# Altium schematic symbol library democritus-robot.SchLib: 39 symbols
Pins are listed as number, name and electrical type; pins without a type are passive.

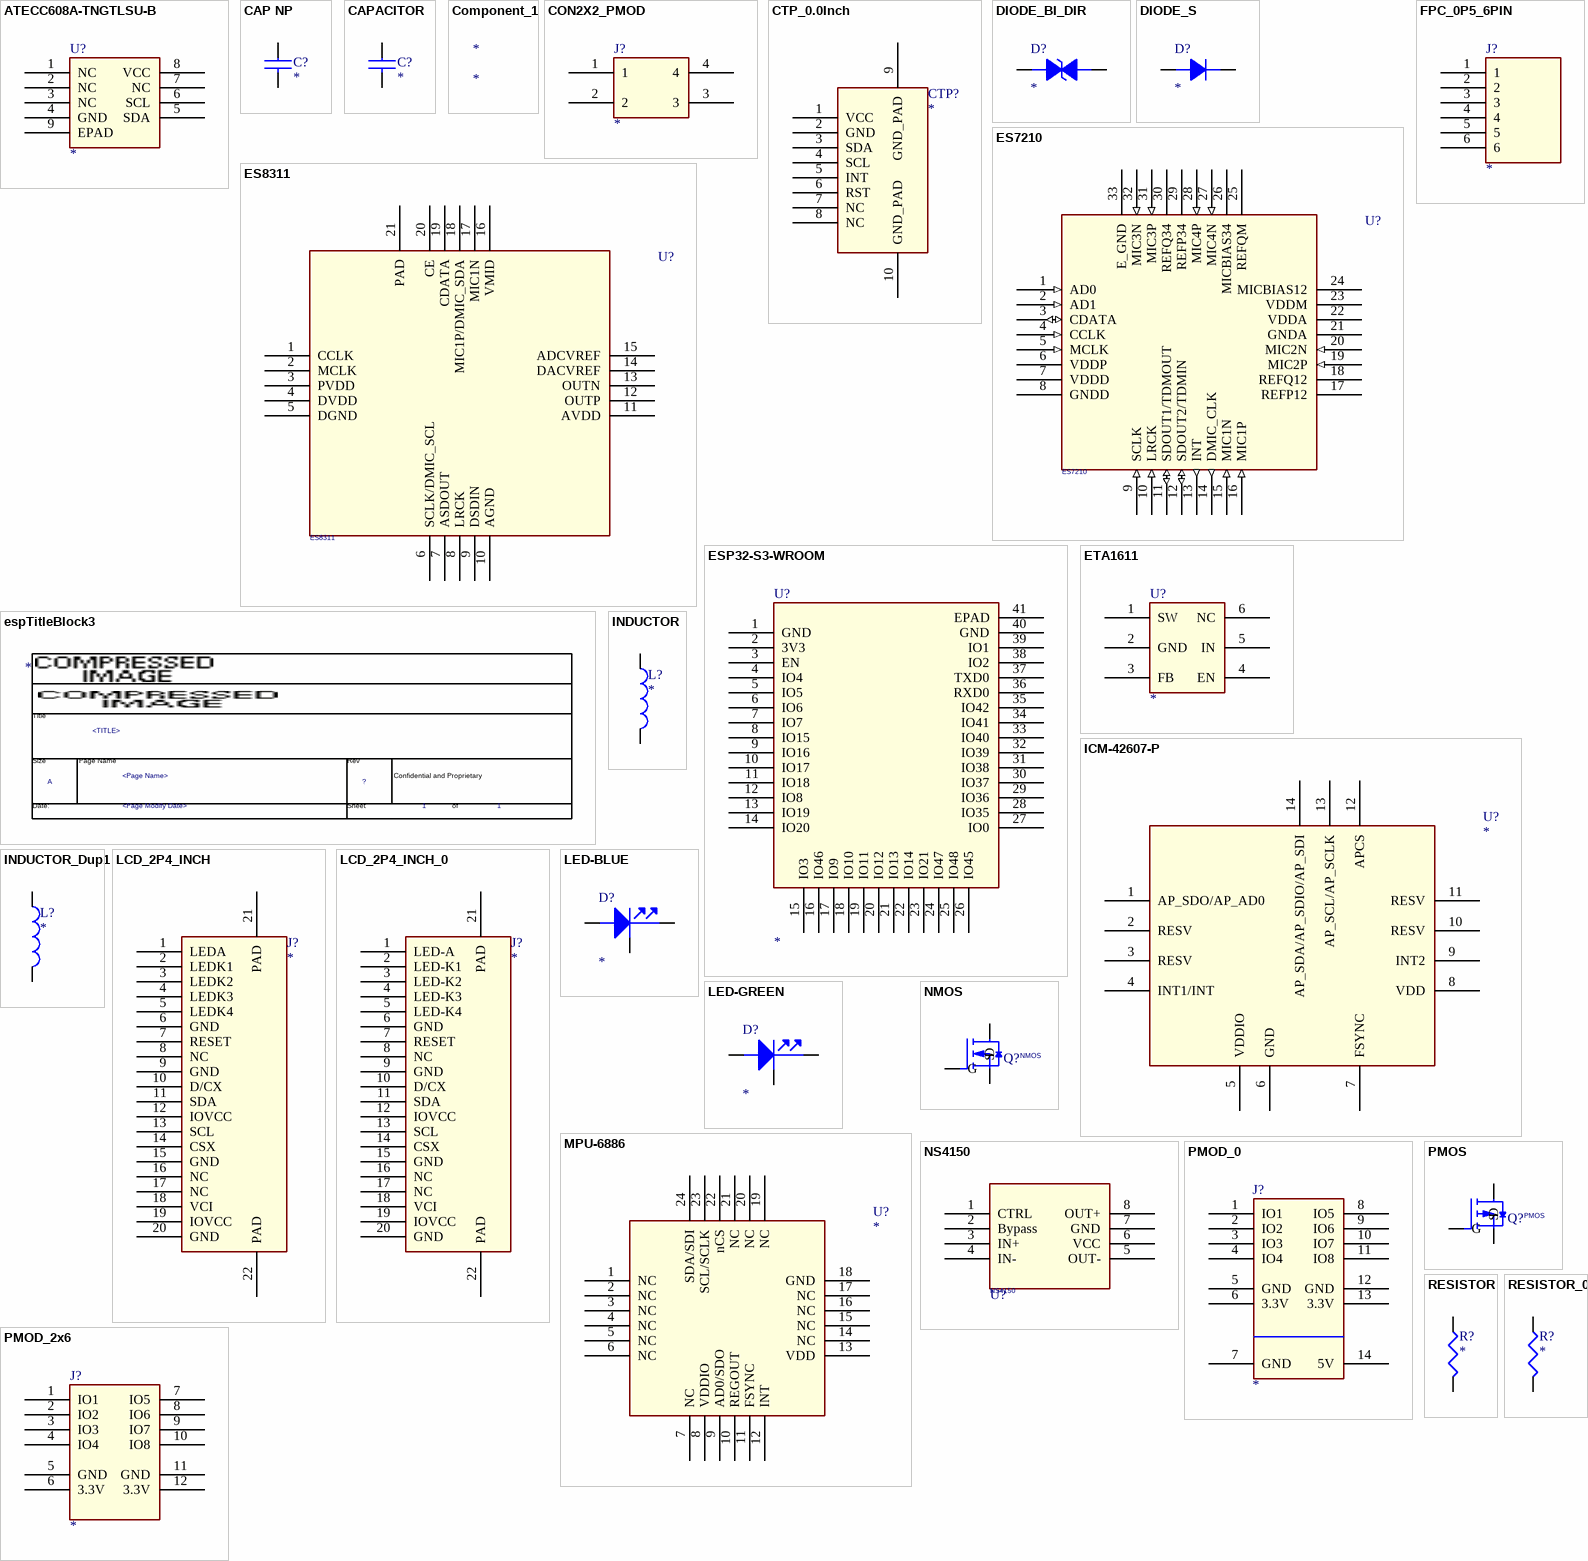
[diagram p0: symbols ATECC608A-TNGTLSU-B to RESISTOR_0]

## ATECC608A-TNGTLSU-B
designator U?
footprint DFN8_0P5_2P4
pins: 1 NC, 2 NC, 3 NC, 4 GND, 5 SDA, 6 SCL, 7 NC, 8 VCC, 9 EPAD

## CAP NP
designator C?
pins: 1, 2

## CAPACITOR
designator C?
pins: 1, 2

## Component_1
designator *

## CON2X2_PMOD
designator J?
footprint CON2X2_PMOD
pins: 1, 2, 3, 4

## CTP_0.0Inch
designator CTP?
footprint FFC_8P_0P5
pins: 1 VCC, 2 GND, 3 SDA, 4 SCL, 5 INT, 6 RST, 7 NC, 8 NC, 9 GND_PAD, 10 GND_PAD

## DIODE_BI_DIR
designator D?
pins: 1, 2

## DIODE_S
designator D?
pins: 1 A, 2 K

## ES7210
designator U?
pins: 1 AD0 (in), 2 AD1 (in), 3 CDATA (io), 4 CCLK (in), 5 MCLK (in), 6 VDDP (power), 7 VDDD (power), 8 GNDD (power), 9 SCLK (in), 10 LRCK (in), 11 SDOUT1/TDMOUT (io), 12 SDOUT2/TDMIN (io), 13 INT (out), 14 DMIC_CLK (out), 15 MIC1N (in), 16 MIC1P (in), 17 REFP12 (power), 18 REFQ12 (power), 19 MIC2P (in), 20 MIC2N (in), 21 GNDA (power), 22 VDDA (power), 23 VDDM (power), 24 MICBIAS12 (power), 25 REFQM (power), 26 MICBIAS34 (power), 27 MIC4N (in), 28 MIC4P (in), 29 REFP34 (power), 30 REFQ34 (power), 31 MIC3P (in), 32 MIC3N (in), 33 E_GND (power)

## ES8311
designator U?
pins: 1 CCLK, 2 MCLK, 3 PVDD, 4 DVDD, 5 DGND, 6 SCLK/DMIC_SCL, 7 ASDOUT, 8 LRCK, 9 DSDIN, 10 AGND, 11 AVDD, 12 OUTP, 13 OUTN, 14 DACVREF, 15 ADCVREF, 16 VMID, 17 MIC1N, 18 MIC1P/DMIC_SDA, 19 CDATA, 20 CE, 21 PAD

## ESP32-S3-WROOM
designator U?
pins: 1 GND (power), 2 3V3 (power), 3 EN, 4 IO4, 5 IO5, 6 IO6, 7 IO7, 8 IO15, 9 IO16, 10 IO17, 11 IO18, 12 IO8, 13 IO19, 14 IO20, 15 IO3, 16 IO46, 17 IO9, 18 IO10, 19 IO11, 20 IO12, 21 IO13, 22 IO14, 23 IO21, 24 IO47, 25 IO48, 26 IO45, 27 IO0, 28 IO35, 29 IO36, 30 IO37, 31 IO38, 32 IO39, 33 IO40, 34 IO41, 35 IO42, 36 RXD0, 37 TXD0, 38 IO2, 39 IO1, 40 GND (power), 41 EPAD (power)

## espTitleBlock3
designator *  Page Modify Date: <Page Modify Date>  Page Name: <Page Name>  Title: <TITLE>  Page Size: A  Page Number: 1  (graphical)
Page Count: 1; RevCode: ?
text: Title; Size; Page Name; Rev; Confidential and Proprietary; Date:; Sheet; of

## ETA1611
designator U?
footprint SOT23-6
pins: 1 SW, 2 GND, 3 FB, 4 EN, 5 IN, 6 NC

## FPC_0P5_6PIN
designator J?
footprint FPC_0P5_6PIN
pins: 1, 2, 3, 4, 5, 6

## ICM-42607-P
designator U?
footprint LGA14_0P5
pins: 1 AP_SDO/AP_AD0, 2 RESV, 3 RESV, 4 INT1/INT, 5 VDDIO, 6 GND, 7 FSYNC, 8 VDD, 9 INT2, 10 RESV, 11 RESV, 12 APCS, 13 AP_SCL/AP_SCLK, 14 AP_SDA/AP_SDIO/AP_SDI

## INDUCTOR
designator L?
pins: 1, 2

## INDUCTOR_Dup1
designator L?
pins: 1, 2

## LCD_2P4_INCH
designator J?
footprint LCD_2P4_INCH
pins: 1 LEDA, 2 LEDK1, 3 LEDK2, 4 LEDK3, 5 LEDK4, 6 GND, 7 RESET, 8 NC, 9 GND, 10 D/CX, 11 SDA, 12 IOVCC, 13 SCL, 14 CSX, 15 GND, 16 NC, 17 NC, 18 VCI, 19 IOVCC, 20 GND, 21 PAD, 22 PAD

## LCD_2P4_INCH_0
designator J?
footprint LCD_2P4_INCH
pins: 1 LED-A, 2 LED-K1, 3 LED-K2, 4 LED-K3, 5 LED-K4, 6 GND, 7 RESET, 8 NC, 9 GND, 10 D/CX, 11 SDA, 12 IOVCC, 13 SCL, 14 CSX, 15 GND, 16 NC, 17 NC, 18 VCI, 19 IOVCC, 20 GND, 21 PAD, 22 PAD

## LED-BLUE
designator D?
footprint LED_SMD1206
pins: 1, 2, 3

## LED-GREEN
designator D?
footprint LED_SMD1206
pins: 1, 2, 3

## MPU-6886
designator U?
footprint LGA_3x3x0.75mm
pins: 1 NC, 2 NC, 3 NC, 4 NC, 5 NC, 6 NC, 7 NC, 8 VDDIO, 9 AD0/SDO, 10 REGOUT, 11 FSYNC, 12 INT, 13 VDD, 14 NC, 15 NC, 16 NC, 17 NC, 18 GND, 19 NC, 20 NC, 21 NC, 22 nCS, 23 SCL/SCLK, 24 SDA/SDI

## NMOS
designator Q?
pins: 1 G, 2 S, 3 D

## NS4150
designator U?
pins: 1 CTRL, 2 Bypass, 3 IN+, 4 IN-, 5 OUT-, 6 VCC, 7 GND, 8 OUT+

## PMOD_0
designator J?
footprint PMOD_2x6
pins: 1 IO1, 2 IO2, 3 IO3, 4 IO4, 5 GND, 6 3.3V, 7 GND, 8 IO5, 9 IO6, 10 IO7, 11 IO8, 12 GND, 13 3.3V, 14 5V

## PMOD_2x6
designator J?
footprint PMOD_2x6
pins: 1 IO1, 2 IO2, 3 IO3, 4 IO4, 5 GND, 6 3.3V, 7 IO5, 8 IO6, 9 IO7, 10 IO8, 11 GND, 12 3.3V

## PMOS
designator Q?
pins: 1 G, 2 S, 3 D

## RESISTOR
designator R?
pins: 1, 2

## RESISTOR_0
designator R?
pins: 1, 2

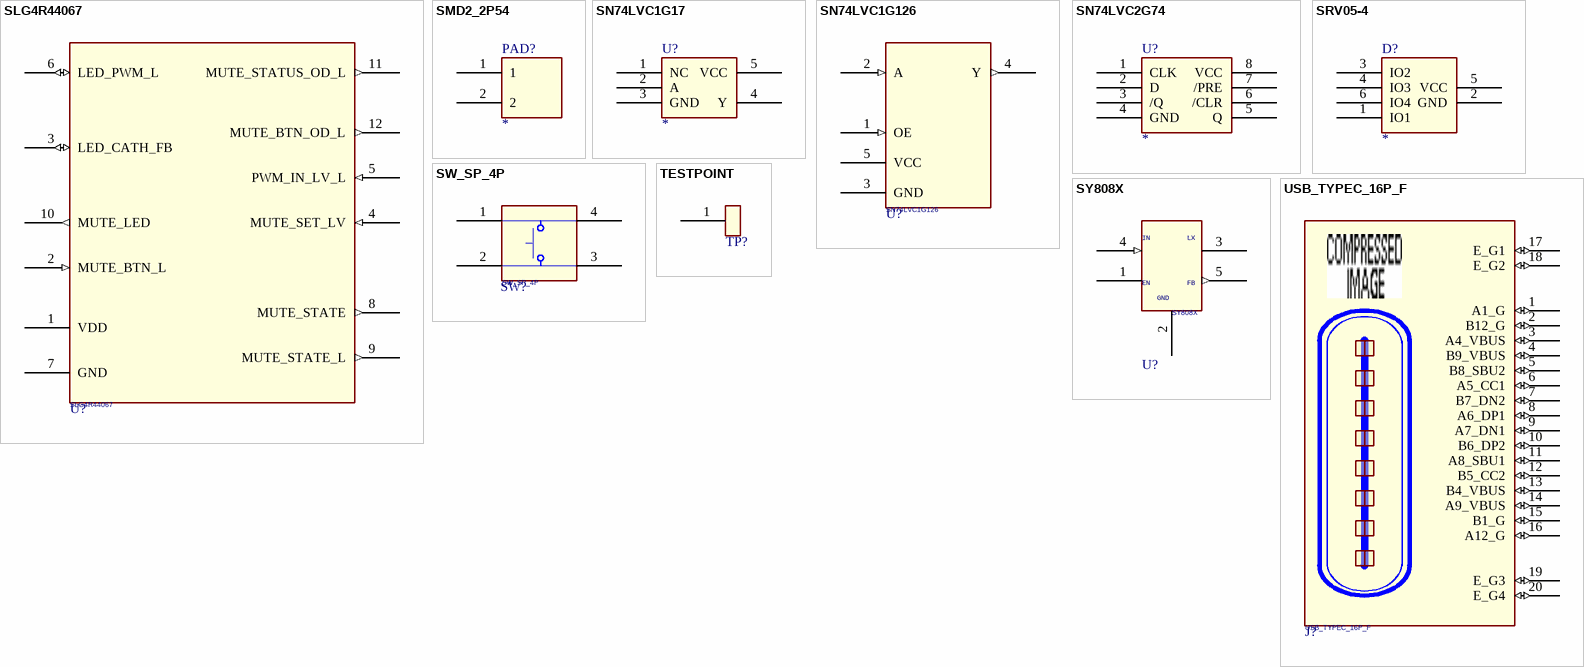
[diagram p1: symbols SLG4R44067 to USB_TYPEC_16P_F]

## SLG4R44067
designator U?
footprint STQFN12_0P4_1P6
pins: 1 VDD (power), 2 MUTE_BTN_L (in), 3 LED_CATH_FB (io), 4 MUTE_SET_LV (in), 5 PWM_IN_LV_L (in), 6 LED_PWM_L (io), 7 GND (power), 8 MUTE_STATE (out), 9 MUTE_STATE_L (out), 10 MUTE_LED (out), 11 MUTE_STATUS_OD_L (out), 12 MUTE_BTN_OD_L (out)

## SMD2_2P54
designator PAD?
footprint SMD2_2P54
pins: 1, 2

## SN74LVC1G17
designator U?
footprint SOT23-5-S
pins: 1 NC, 2 A, 3 GND, 4 Y, 5 VCC

## SN74LVC1G126
designator U?
pins: 1 OE (in), 2 A (in), 3 GND (power), 4 Y (out), 5 VCC (power)

## SN74LVC2G74
designator U?
footprint VSSOP8
pins: 1 CLK, 2 D, 3 /Q, 4 GND, 5 Q, 6 /CLR, 7 /PRE, 8 VCC

## SRV05-4
designator D?
footprint SOT23-6
pins: 1 IO1, 2 GND, 3 IO2, 4 IO3, 5 VCC, 6 IO4

## SW_SP_4P
designator SW?
CLASS: DISCRETE; TIME: 2004-11-29
pins: 1, 2, 3, 4

## SY808X
designator U?
pins: 1 EN, 2 GND (power), 3 LX, 4 IN (in), 5 FB (out)

## TESTPOINT
designator TP?  (value not drawn)
footprint TPC_D40
pins: 1

## USB_TYPEC_16P_F
designator J?
footprint USB_TYPEC_16P_F
pins: 1 A1_G (io), 2 B12_G (io), 3 A4_VBUS (io), 4 B9_VBUS (io), 5 B8_SBU2 (io), 6 A5_CC1 (io), 7 B7_DN2 (io), 8 A6_DP1 (io), 9 A7_DN1 (io), 10 B6_DP2 (io), 11 A8_SBU1 (io), 12 B5_CC2 (io), 13 B4_VBUS (io), 14 A9_VBUS (io), 15 B1_G (io), 16 A12_G (io), 17 E_G1 (io), 18 E_G2 (io), 19 E_G3 (io), 20 E_G4 (io)